# Altium footprint library miscellaneous.PcbLib: 34 footprints (part 2 of 3)
Each footprint in its own frame and in the unit in brackets; x right, y up, seen from the top. Pads: shape width x height; smd on the part's side, far side on the other; paste and mask are expansions set on the pad; w line width, h text height; cw(c..) or ccw(c..) is an arc to the next point about the centre after c.
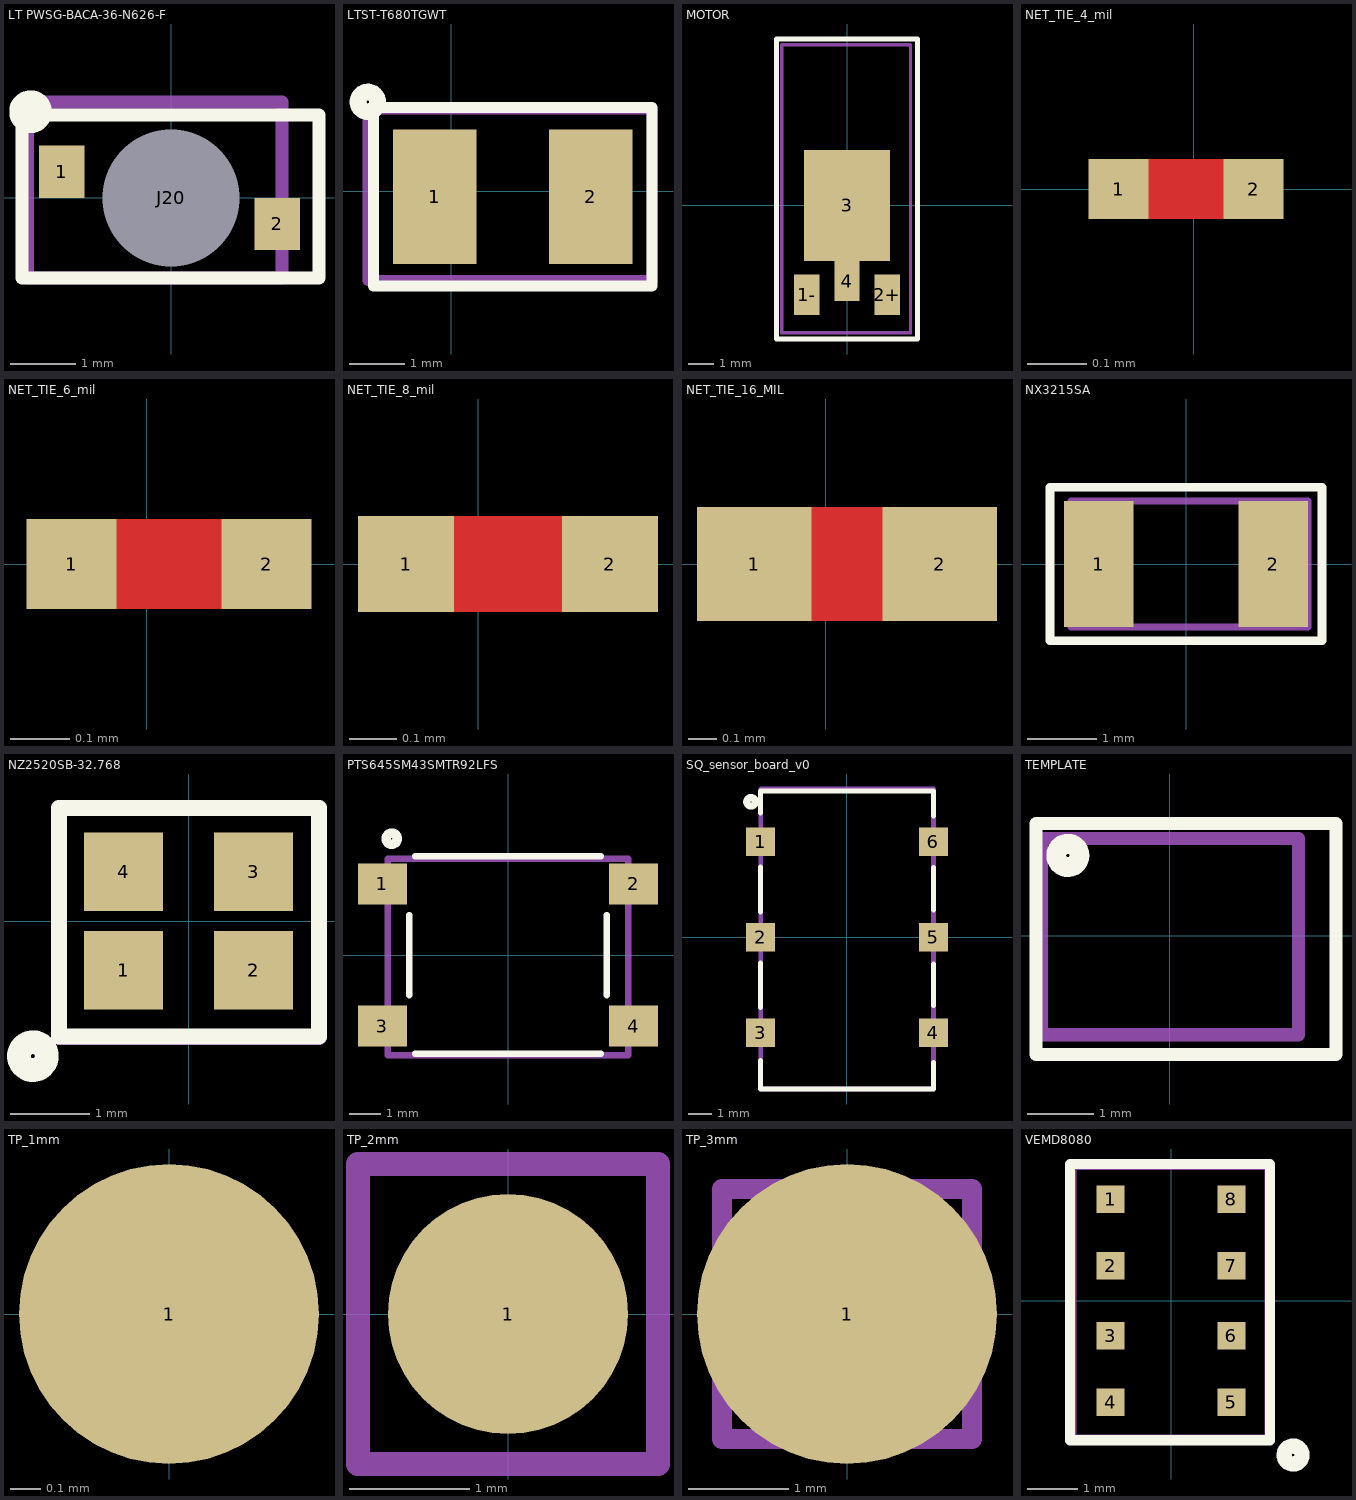
[diagram p1: the footprints below, top view; thin cyan lines are the x and y axes]

## LT PWSG-BACA-36-N626-F [mm] "Standard LEDs - SMD Green POINTLED TF"
pads (3):
  rect 0.7x0.8 smd: 1(-1.675,0.4) 2(1.625,-0.4)
  rect 1.2x1.2 hole 2.1 unplated: J20(0,0)
Top Overlay:
  circle w0.3: c-2.156,1.321 r0.177
  lines w0.2: -2.285,-1.226 2.265,-1.226 2.265,1.27 -2.285,1.27 -2.285,-1.226
Top Assembly:
  lines w0.2: -2.203,-1.226 -2.203,1.469 1.697,1.469 1.697,-1.226 -2.203,-1.226
  text ".Designator" at -1.578,-0.456 h0.89
3D body "LT_PWSG_20150916_geometry.STEP": height 0.7, standoff -0.12, extent -1.7,-0.95 1.7,0.95

## LTST-T680TGWT [mm] "LED GREEN DIFFUSED 2SMD"
pads (2):
  rect 1.5x2.41 smd: 1(-0.3,-0.1) 2(2.5,-0.1)
Top Overlay:
  circle w0.3: c-1.5,1.6 r0.177
  lines w0.2: -1.4,-1.7 3.6,-1.7 3.6,1.5 -1.4,1.5 -1.4,-1.7
Top Assembly:
  lines w0.2: -1.5,-1.6 3.6,-1.6 3.6,1.475 -1.5,1.475 -1.5,-1.6
  text ".Designator" at -1.05,-0.382 h0.89
3D body "LS_T67F_20141217_geometry.STEP": height 1.8, standoff -0.03, extent -0.675,-1.5 2.875,1.3

## MOTOR [mm]
pads (4):
  rect 1x1.6 smd: 1-(-1.6,-3.55) 2+(1.6,-3.55) 4(0,-3)
  rect 3.4x4.4 smd: 3(0,0)
Top Overlay:
  lines w0.2: -2.8,-5.3 2.8,-5.3 2.8,6.6 -2.8,6.6 -2.8,-5.3
Top 3D Body:
  lines w0.127: -2.591,6.374 -2.591,-5.055 2.515,-5.055 2.515,6.375 -2.591,6.375
Top Assembly:
  lines w0.1: -2.6,-5.075 2.525,-5.075 2.525,6.35 -2.6,6.35 -2.6,-5.075
  text ".Designator" at 0.325,-3 h1.5
3D body "User Library-z30c1t8219651.step": height 3.59, standoff 0, extent -2.15,-4.693 2.141,6.107

## NET_TIE_4_mil [mil]
pads (2):
  rect 4x4 smd paste-39330.7 mask+4: 1(-5,0) 2(4,0)
Top Layer:
  rectangle: -4,-2 3,2

## NET_TIE_6_mil [mil]
pads (2):
  rect 6x6 smd paste-39330.7 mask+4: 1(-5,0) 2(8,0)
Top Layer:
  rectangle: -3,-3 6,3

## NET_TIE_8_mil [mil]
pads (2):
  rect 8x8 smd paste-39330.7 mask+4: 1(-6,0) 2(11,0)
Top Layer:
  rectangle: -3,-4 8,4

## NET_TIE_16_MIL [mil]
pads (2):
  rect 16x16 smd paste-39330.7 mask+4: 1(-10,0) 2(16,0)
Top Layer:
  rectangle: -3,-8 9,8

## NX3215SA [mm] "CRYSTAL 32.768KHZ 12.5PF SMD"
pads (2):
  rect 1x1.8 smd: 1(-1.25,0) 2(1.25,0)
Top Overlay:
  lines w0.127: -1.95,-1.1 1.95,-1.1 1.95,1.1 -1.95,1.1 -1.95,-1.1
Top Assembly:
  lines w0.1: -1.65,-0.9 -1.65,0.9 1.75,0.9 1.75,-0.9 -1.65,-0.9
  text ".Designator" at -1.35,-0.4 h0.89
3D body: height 0.6, standoff 0, extent -1.45,-0.9 1.35,0.9

## NZ2520SB-32.768 [mm]
pads (4):
  rect 1x1 smd paste+0 mask+0: 1(-0.825,-0.625) 2(0.825,-0.625) 3(0.825,0.625) 4(-0.825,0.625)
Top Overlay:
  circle w0.3: c-1.975,-1.715 r0.177
  lines w0.2: -1.645,-1.465 1.655,-1.465 1.655,1.435 -1.645,1.435 -1.645,-1.465
Top Assembly:
  lines w0.2: -1.645,-1.475 -1.645,1.435 1.655,1.435 1.655,-1.475 -1.645,-1.475
  text ".Designator" at -0.945,-0.465 h0.89
3D body: height 0.77, standoff 0, extent -1.265,-1.065 1.235,1.035

## PTS645SM43SMTR92LFS [mm] "SWITCH TACTILE SPST-NO 0.05A 12V"
pads (4):
  rect 1.549x1.295 smd: 1(-3.975,2.25) 2(3.975,2.25) 3(-3.975,-2.25) 4(3.975,-2.25)
Top Overlay:
  circle w0.3: c-3.683,3.683 r0.177
  lines w0.2: -3.124,-1.27 -3.124,1.27 ; -2.946,-3.124 2.946,-3.124 ; -2.946,3.124 2.946,3.124 ; 3.124,-1.27 3.124,1.27
Bottom Overlay:
  lines w0.254: -4.191,4.064 cw(c-4.064,4.064) -3.937,4.064
Top Assembly:
  lines w0.2: -3.81,-3.175 -3.81,3.048 3.81,3.048 3.81,-3.175 -3.81,-3.175
  text ".Designator" at -1.397,-0.381 h0.89
3D body "PTS645SL50SMTR92-LFS.STEP": height 5, standoff 0, extent -4.5,-3 4.5,3

## SQ_sensor_board_v0 [mm] "Sensor board for the compute unit"
pads (6):
  rect 1.2x1.2 smd: 1(-3.625,4) 2(-3.625,0) 3(-3.625,-4) 4(3.625,-4) 5(3.625,0) 6(3.625,4)
Top Overlay:
  circle w0.3: c-4.025,5.675 r0.177
  lines w0.2: -3.624,-5.176 -3.624,-6.366 3.626,-6.366 3.626,-5.249 ; -3.625,-2.95 -3.625,-1.076 ; -3.624,1.05 -3.624,2.95 ; -3.624,5.2 -3.624,6.134 3.626,6.134 3.626,5.074 ; 3.626,-2.876 3.626,-1.125 ; 3.626,1.125 3.626,2.925
Top Assembly:
  lines w0.2: -3.616,-6.366 3.626,-6.366 3.626,6.214 -3.616,6.214 -3.616,-6.366
  text ".Designator" at -1.075,-0.725 h0.89
3D body "v_2_0_prod_sensors.step": height 2.5, standoff -0.09, extent -3.623,-6.25 3.627,6.25

## TEMPLATE [mm]
Top Overlay:
  circle w0.3: c-1.549,1.219 r0.177
  lines w0.2: -2.032,-1.798 2.518,-1.798 2.518,1.702 -2.032,1.702 -2.032,-1.798
Top Assembly:
  lines w0.2: -1.95,-1.5 -1.95,1.475 1.95,1.475 1.95,-1.5 -1.95,-1.5
  text ".Designator" at -1.325,-0.45 h0.89

## TP_1mm [mm]
pads (1):
  round 1 smd paste+0 mask+0: 1(0,0)

## TP_2mm [mm]
pads (1):
  round 2 smd paste+0 mask+0: 1(0,0)
Top Assembly:
  lines w0.2: -1.25,-1.25 1.25,-1.25 1.25,1.25 -1.25,1.25 -1.25,-1.25
  text ".Designator" at -1,-0.25 h0.89

## TP_3mm [mm]
pads (1):
  round 3 smd paste+0 mask+0: 1(0,0)
Top Assembly:
  lines w0.2: -1.25,-1.25 -1.25,1.25 1.25,1.25 1.25,-1.25 -1.25,-1.25
  text ".Designator" at -1,-0.25 h0.89

## VEMD8080 [mm]
pads (8):
  rect 0.55x0.54 smd: 1(-1.19,2) 2(-1.19,0.69) 3(-1.19,-0.69) 4(-1.19,-2) 5(1.19,-2) 6(1.19,-0.69) 7(1.19,0.69) 8(1.19,2)
Top Overlay:
  circle w0.3: c2.403,-3.039 r0.177
  lines w0.2: -1.99,-2.75 -1.99,2.69 1.95,2.69 1.95,-2.75 -1.99,-2.75
Top Assembly:
  lines w0.2: -1.96,-2.74 1.94,-2.74 1.94,2.67 -1.96,2.67 -1.96,-2.74
  text ".Designator" at -1.39,-0.37 h0.89
3D body: height 0.48, standoff 0, extent -1.228,2.191 1.235,2.419
3D body: height 0.48, standoff 0, extent 1.007,-2.407 1.235,2.419
3D body: height 0.48, standoff 0, extent -1.228,-2.407 1.235,-2.178
3D body: height 0.46, standoff 0, extent -1.114,-2.204 1.083,2.305
3D body: height 0.48, standoff 0, extent -1.228,-2.407 -1,2.419